# EAGLE library part EV1320QI (library ORBiT-IC-INTEL-POWER)
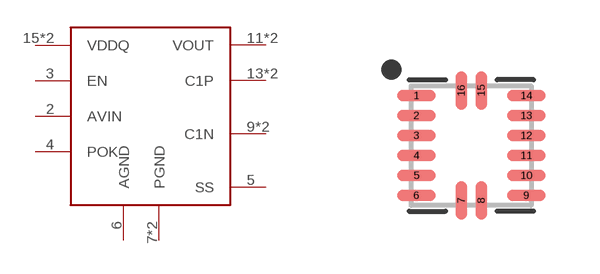
[diagram p2: symbol with the pads of QFN50P300X300X160-16; footprint QFN50P300X300X160-16]

Designator prefix -

## EV1320QI  [QFN50P300X300X160-16]
2  AVIN  pwr
3  EN  in
4  POK  pwr
5  SS  pwr
6  AGND  pwr
7  PGND  pwr
8  PGND  pwr
9  C1N
10  C1N
11  VOUT  pwr
12  VOUT  pwr
13  C1P
14  C1P
15  VDDQ  pwr
16  VDDQ  pwr

## Footprint QFN50P300X300X160-16 (pad centres in mm)
16-QFN, 0.50 mm pitch, 3.00 X 3.00 X 1.60 mm body 16-pin QFN package with 0.50 mm pitch with body size 3.00 X 3.00 X 1.60 mm
smd 0.962 x 0.282: 1 -1.375,1.25; 2 -1.375,0.75; 3 -1.375,0.25; 4 -1.375,-0.25; 5 -1.375,-0.75; 6 -1.375,-1.25; 9 1.375,-1.25; 10 1.375,-0.75; 11 1.375,-0.25; 12 1.375,0.25; 13 1.375,0.75; 14 1.375,1.25
smd 0.282 x 0.962: 7 -0.25,-1.375; 8 0.25,-1.375; 15 0.25,1.375; 16 -0.25,1.375